# Altium schematic symbol library 74HC.SchLib: 4 symbols
Pins are listed as number, name and electrical type; pins without a type are passive.

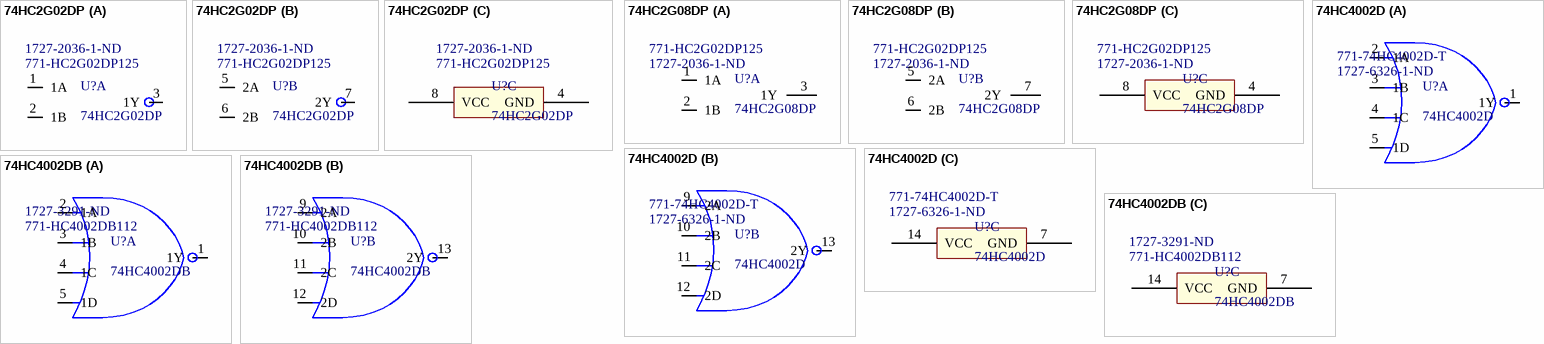
[diagram p0: symbols 74HC2G02DP to 74HC4002DB]

## 74HC2G02DP
designator U?  Supplier Part Number 1: 771-HC2G02DP125  Supplier Part Number 2: 1727-2036-1-ND
Nexperia 74HC2G02 / SSOP-8 Package / It provides the double 2-input NOR function.; Supplier 1: Mouser; Supplier 2: Digi-Key
footprint SOT505-2 (Nexperia STPT505-2, SOP, 8-Leads, Body 3.00x3.00mm, Pitch 0.65mm, IPC High Density)
part A pins: 1 1A, 2 1B, 3 1Y
part B pins: 5 2A, 6 2B, 7 2Y
part C pins: 4 GND, 8 VCC

## 74HC2G08DP
designator U?  Supplier Part Number 1: 1727-2036-1-ND  Supplier Part Number 2: 771-HC2G02DP125
Nexperia 74HC2G08 / SSOP-8 Package / It provides the double 2-input AND function.; Supplier 1: Digi-Key; Supplier 2: Mouser
footprint SOT505-2 (Nexperia STPT505-2, SOP, 8-Leads, Body 3.00x3.00mm, Pitch 0.65mm, IPC High Density)
part A pins: 1 1A, 2 1B, 3 1Y
part B pins: 5 2A, 6 2B, 7 2Y
part C pins: 4 GND, 8 VCC

## 74HC4002D
designator U?  Supplier Part Number 1: 1727-6326-1-ND  Supplier Part Number 2: 771-74HC4002D-T
Nexperia 74HC4002 / PSOP-14 Package / It provides the double 4-input NOR function.; Supplier 1: Digi-Key; Supplier 2: Mouser
footprint SOT108-1 (Nexperia SOT108-1, SOP, 14-Leads, Body 8.65x3.90mm, Pitch 1.27mm)
part A pins: 1 1Y, 2 1A, 3 1B, 4 1C, 5 1D
part B pins: 9 2A, 10 2B, 11 2C, 12 2D, 13 2Y
part C pins: 7 GND, 14 VCC

## 74HC4002DB
designator U?  Supplier Part Number 1: 771-HC4002DB112  Supplier Part Number 2: 1727-3291-ND
Nexperia 74HC4002 / SSOP-14 Package / It provides the double 4-input NOR function.; Supplier 1: Mouser; Supplier 2: Digi-Key
footprint SOT337-1 (Nexperia SOT337-1, SOP, 14-Leads, Body 6.20x5.30mm, Pitch 0.65mm, IPC High Density)
part A pins: 1 1Y, 2 1A, 3 1B, 4 1C, 5 1D
part B pins: 9 2A, 10 2B, 11 2C, 12 2D, 13 2Y
part C pins: 7 GND, 14 VCC